# Altium schematic symbol library RJ45_UNSHIELDED.Schlib: 1 symbol
Pins are listed as number, name and electrical type; pins without a type are passive.

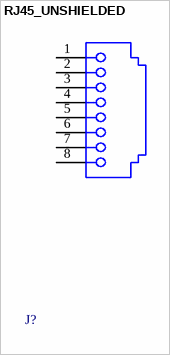
[diagram p0: symbol RJ45_UNSHIELDED]

## RJ45_UNSHIELDED
designator J?
Modular Jack Unshielded 8P8C
pins: 1, 2, 3, 4, 5, 6, 7, 8